# Altium footprint library custom.PcbLib: 39 footprints (part 3 of 3)
Each footprint in its own frame and in the unit in brackets; x right, y up, seen from the top. Pads: shape width x height; smd on the part's side, far side on the other; paste and mask are expansions set on the pad; w line width, h text height; cw(c..) or ccw(c..) is an arc to the next point about the centre after c.
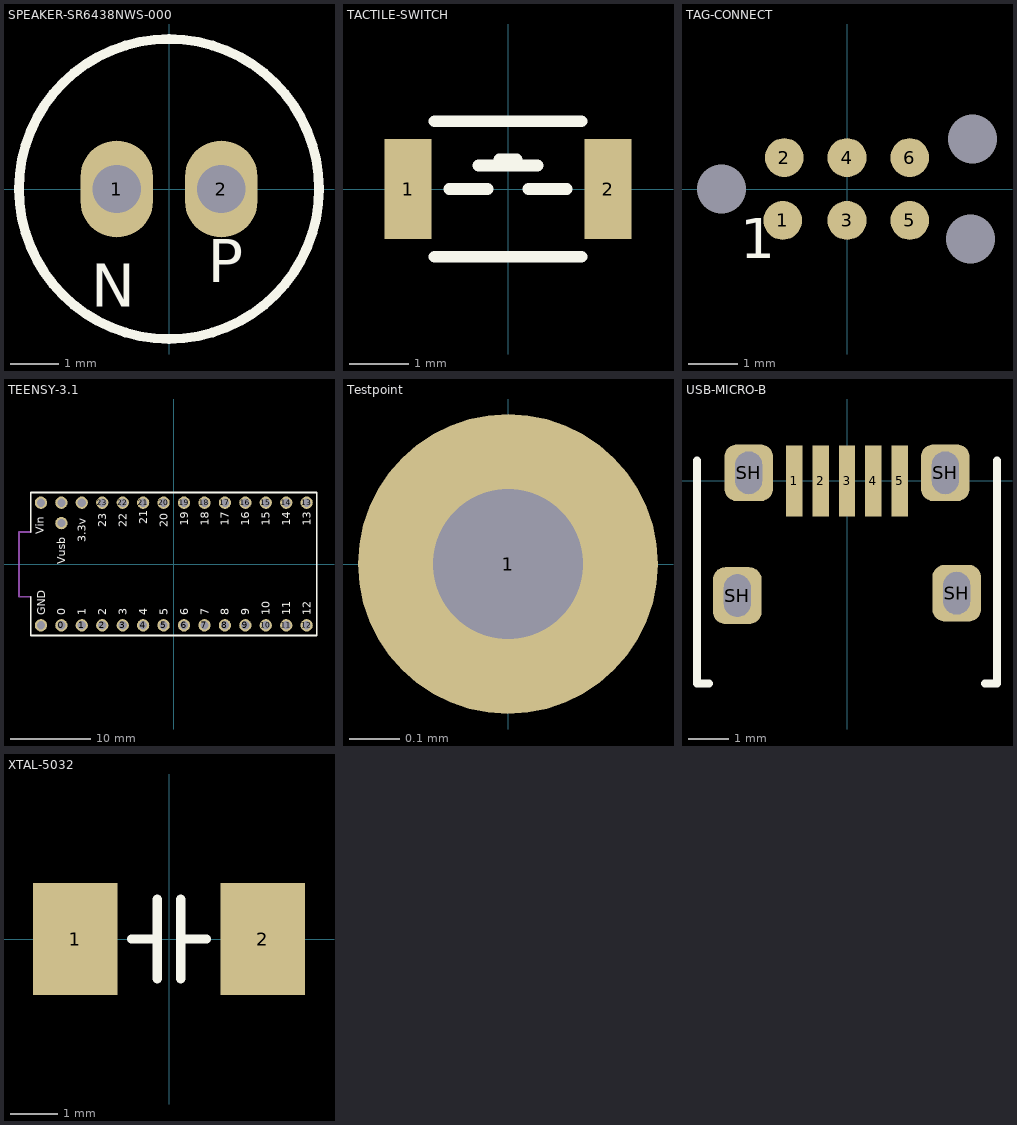
[diagram p2: the footprints below, top view; thin cyan lines are the x and y axes]

## SPEAKER-SR6438NWS-000 [mm] "Knowles SR6438NWS-000 speaker"
height 4
pads (2):
  oval 1.5x2 hole 1: 1(-1.08,0) 2(1.08,0)
Top Overlay:
  circle w0.2: c0,0 r3.1
  text "P" at 0.8,-2.225 h1.52
  text "N" at -0.7,-1.25 h1.52
3D body: height 4, standoff 0, extent -3.2,-3.2 3.2,3.2

## TACTILE-SWITCH [mm] "Tactile switch"
height 1.6
pads (2):
  rect 0.8x1.7 smd: 1(-1.7,0) 2(1.7,0)
Top Overlay:
  lines w0.2: -1.25,-1.15 1.25,-1.15 ; -1.25,1.15 1.25,1.15 ; -1,0 -0.35,0 ; -0.5,0.4 0.5,0.4 ; -0.15,0.5 0,0.5 0.15,0.5 ; 0.35,0 1,0
3D body: height 1.6, standoff 0, extent -2,-1.25 2,1.25

## TAG-CONNECT [mm] "Tag-Connect TC-2030-IDC-NL"
pads (9):
  round 0.787 smd: 1(-1.3,-0.635) 2(-1.27,0.635) 3(0,-0.635) 4(0,0.635) 5(1.27,-0.635) 6(1.27,0.635)
  round 0 hole 0.991 unplated: ""(-2.54,0) ""(2.5,-1.016) ""(2.54,1.016)
Top Overlay:
  text "1" at -2.159,-1.397 h0.81

## TEENSY-3.1 [mil] "Teensy 3.1 breakout"
height 122.05
pads (29):
  round 60 hole 40: 0(-550,-300) 1(-450,-300) 2(-350,-300) 3(-250,-300) 3.3v(-450,300) 4(-150,-300) 5(-50,-300) 6(50,-300) 7(150,-300) 8(250,-300) 9(350,-300) 10(450,-300) 11(550,-300) 12(650,-300) 13(650,300) 14(550,300) 15(450,300) 16(350,300) 17(250,300) 18(150,300) 19(50,300) 20(-50,300) 21(-150,300) 22(-250,300) 23(-350,300) AGND(-550,300) GND(-650,-300) Vin(-650,300) Vusb(-550,200)
Top Overlay:
  lines w7.87: -700,-160.24 -700,-350 700,-350 700,350 -700,350 -700,156.69
  text "11" at 570,-250 h40
  text "10" at 470,-250 h40
  text "9" at 370,-250 h40
  text "8" at 270,-250 h40
  text "7" at 170,-250 h40
  text "6" at 70,-250 h40
  text "5" at -30,-250 h40
  text "4" at -130,-250 h40
  text "3" at -230,-250 h40
  text "2" at -330,-250 h40
  text "1" at -430,-250 h40
  text "0" at -530,-250 h40
  text "GND" at -630,-250 h40
  text "14" at 570,186.64 h40
  text "15" at 470,186.64 h40
  text "16" at 370,186.64 h40
  text "17" at 270,186.64 h40
  text "18" at 170,186.64 h40
  text "19" at 70,186.64 h40
  text "20" at -30,179.97 h40
  text "21" at -130,193.3 h40
  text "22" at -230,179.97 h40
  text "23" at -330,179.97 h40
  text "3.3v" at -430,106.66 h40
  text "Vusb" at -530,0 h40
  text "Vin" at -635,146.65 h40
  text "13" at 669.41,186.64 h40
  text "12" at 670.39,-250.98 h40
Mechanical 13:
  lines w7.87: -700.2,-160.24 -757.28,-160.24 -757.28,156.69 -700.2,156.69
3D body: height 271.13, standoff -248.03, extent -762.83,-354.32 698.83,354.34

## Testpoint [mm] "Testpoint"
pads (1):
  round 0.6 hole 0.3: 1(0,0)

## USB-MICRO-B [mm] "FCI 10103594-0001LF"
height 3
pads (9):
  rect 0.4x1.75 smd: 1(-1.3,0) 2(-0.65,0) 3(0,0) 4(0.65,0) 5(1.3,0)
  rrect50% 1.2x1.4 hole 0.66 slot 1.05 at 90 deg: SH(-2.705,-2.83) SH(-2.425,0.2) SH(2.425,0.2) SH(2.705,-2.77)
Top Overlay:
  lines w0.2: -3.7,0.5 -3.7,-5 -3.4,-5 ; 3.4,-5 3.7,-5 3.7,0.5

## XTAL-5032 [mm] "SMD Crystal 5x3.2mm"
height 1
pads (2):
  rect 1.8x2.4 smd: 1(-2,0) 2(2,0)
Top Overlay:
  lines w0.2: -0.8,0 -0.25,0 ; -0.25,-0.85 -0.25,0.85 ; 0.25,-0.85 0.25,0.85 ; 0.25,0 0.8,0